# Altium footprint library 6.直插模块封装.PcbLib: 6 footprints
Each footprint in its own frame and in the unit in brackets; x right, y up, seen from the top. Pads: shape width x height; smd on the part's side, far side on the other; paste and mask are expansions set on the pad; w line width, h text height; cw(c..) or ccw(c..) is an arc to the next point about the centre after c.
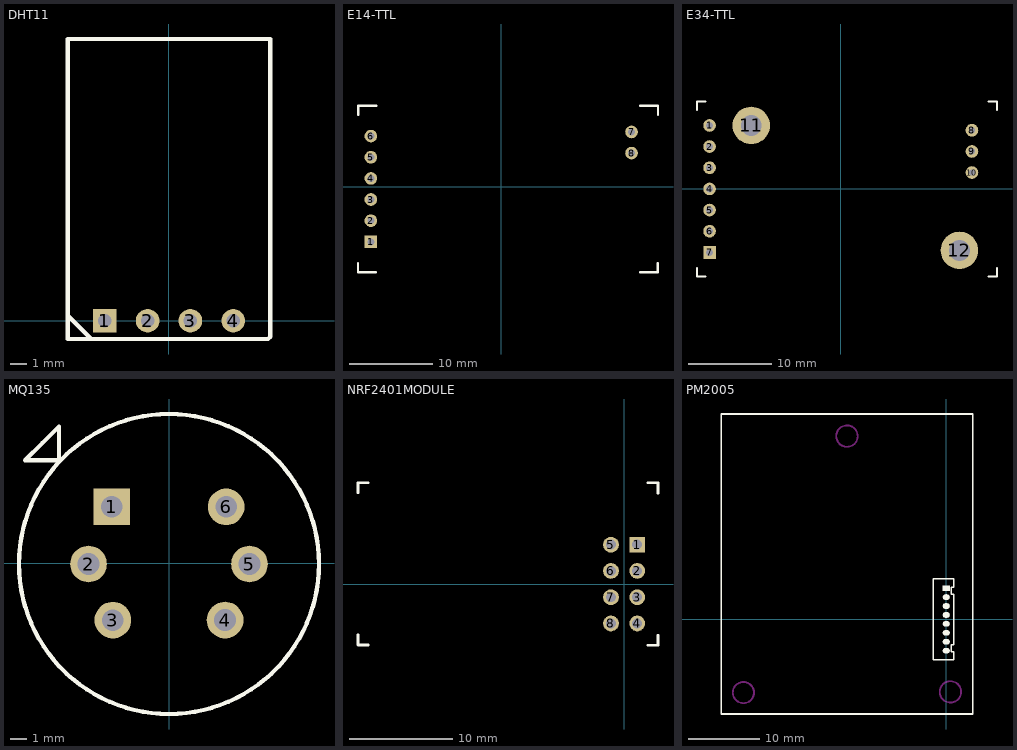
[diagram p0: the footprints below, top view; thin cyan lines are the x and y axes]

## DHT11 [mm]
pads (4):
  rect 1.4x1.4 hole 0.8: 1(-3.81,0)
  round 1.4 hole 0.8: 2(-1.27,0) 3(1.27,0) 4(3.81,0)
Top Overlay:
  lines w0.254: -6,0.317 -4.603,-1.08 ; 6,0.952 6,16.7 -6,16.7 -6,0.952 -6,-1.08 5.873,-1.08 6,-0.953 6,1.333

## E14-TTL [mil] "Ebyte E14-TTL100-SMA"
pads (8):
  rect 60x60 hole 33: 1(-616.54,-259.84)
  round 60 hole 33: 2(-616.54,-159.84) 3(-616.54,-59.84) 4(-616.54,40.16) 5(-616.54,140.16) 6(-616.54,240.16) 7(616.54,259.84) 8(616.54,159.84)
Top Overlay:
  lines w10: -677.38,-403.69 -677.38,-360.14 ; -676.93,-403.84 -591.5,-403.84 ; -676.38,340.31 -676.38,383.86 -590.94,383.86 ; 656.54,-403.84 740.39,-403.84 ; 657.09,383.86 740.94,383.86 ; 740.62,-403.69 740.62,-360.14 ; 741.62,340.31 741.62,383.86

## E34-TTL [mil] "Ebyte E34-TTL100-SMA"
pads (12):
  round 60 hole 33: 1(-620.08,300.16) 2(-620.08,200.16) 3(-620.08,100.16) 4(-620.08,0.16) 5(-620.08,-99.84) 6(-620.08,-199.84)
  rect 60x60 hole 33: 7(-620.08,-300.16)
  round 60 hole 30: 8(620.08,277.32) 9(620.08,177.32) 10(620.08,77.32)
  round 177.17 hole 98.43: 11(-423.23,300.16) 12(561.02,-290.39)
Top Overlay:
  lines w10: -679.69,374.54 -679.69,413.21 ; -679.46,-412.9 -679.46,-374.23 ; -679.13,413.54 -640.46,413.54 ; -678.69,-413.23 -640.02,-413.23 ; 698.87,413.54 737.54,413.54 ; 699.31,-414.23 737.98,-414.23 ; 738.31,373.54 738.31,412.21 ; 738.54,-413.9 738.54,-375.23

## MQ135 [mm]
pads (6):
  rect 2.2x2.2 hole 1.3: 1(-3.429,3.397)
  round 2.2 hole 1.3: 2(-4.826,-0.032) 3(-3.365,-3.397) 4(3.365,-3.397) 5(4.826,-0.032) 6(3.429,3.397)
Top Overlay:
  circle w0.254: c0,-0.032 r9
  lines w0.254: -6.604,7.715 -6.604,8.223 -7.62,7.207 -8.636,6.191 -6.604,6.191 -6.604,7.969

## NRF2401MODULE [mil]
pads (8):
  rect 60x60 hole 38: 1(50,150)
  round 60 hole 38: 2(50,50) 3(50,-50) 4(50,-150) 5(-50,150) 6(-50,50) 7(-50,-50.31) 8(-50,-150)
Top Overlay:
  lines w10: -1012.99,-192.52 -1012.99,-231.89 -973.88,-231.89 ; -1012.99,346.85 -1012.99,385.66 ; -1012.99,386.22 -973.62,386.22 ; 89.42,386.22 128.09,386.22 128.86,385.45 128.86,345.43 ; 89.86,-233.68 128.53,-233.68 ; 129.09,-233.35 129.09,-194.68

## PM2005 [mm]
pads (8):
  rect 1x0.8 on Top Overlay: 1(0,4.375)
  oval 1x0.8 on Top Overlay: 2(0,3.125) 3(0,1.875) 4(0,0.625) 5(0,-0.625) 6(0,-1.875) 7(0,-3.125) 8(0,-4.375)
Top Overlay:
  lines w0.2: -1.849,-5.665 -1.849,5.669 1.016,5.669 1.016,4.537 0.686,4.537 0.686,3.521 1.016,3.521 1.016,-3.517 0.686,-3.517 0.686,-4.533 1.016,-4.533 1.016,-5.665 -1.849,-5.665
  lines w0.254: -31.496,-13.241 -31.496,28.759 3.704,28.759 3.704,-13.241 -31.496,-13.241
Keep-Out Layer:
  circle w0.254: c-28.396,-10.241 r1.483
  circle w0.254: c0.582,-10.148 r1.5
  circle w0.254: c-13.896,25.666 r1.5